# Altium footprint library microdevel_lib.pcblib: 22 footprints (part 2 of 2)
Each footprint in its own frame and in the unit in brackets; x right, y up, seen from the top. Pads: shape width x height; smd on the part's side, far side on the other; paste and mask are expansions set on the pad; w line width, h text height; cw(c..) or ccw(c..) is an arc to the next point about the centre after c.
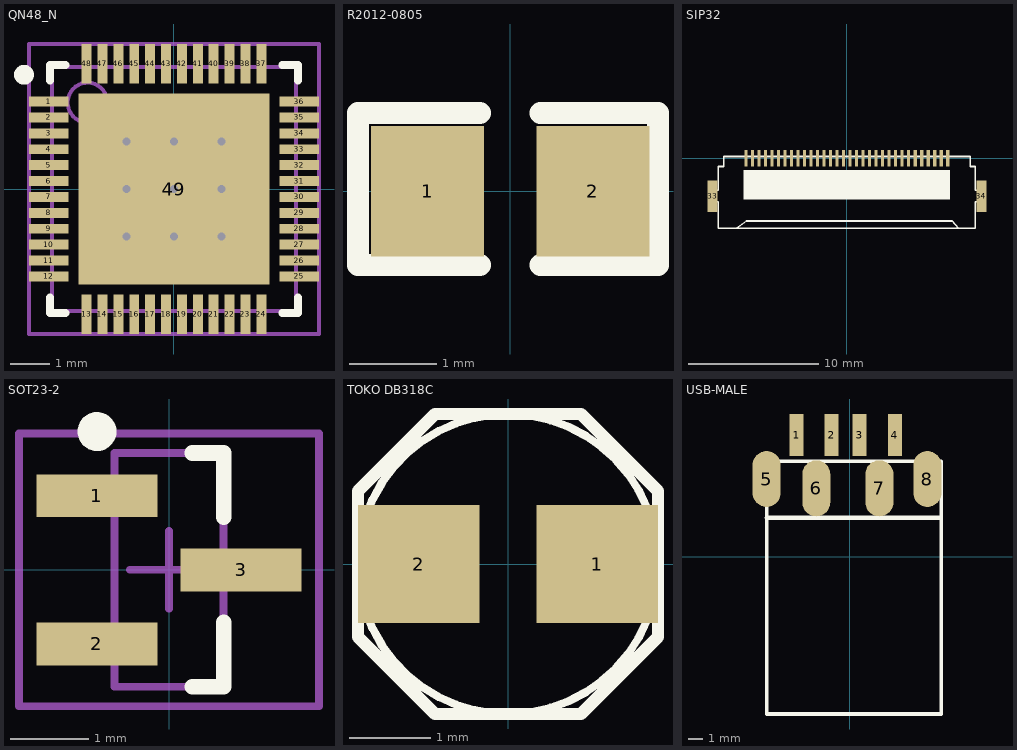
[diagram p1: the footprints below, top view; thin cyan lines are the x and y axes]

## QN48_N [mm] "QFN, 48-Leads, Body 6x6 mm, Pitch 0.4mm, IPC Medium Density"
height 1
pads (49):
  rect 1x0.25 smd: 1(-3.15,2.2) 2(-3.15,1.8) 3(-3.15,1.4) 4(-3.15,1) 5(-3.15,0.6) 6(-3.15,0.2) 7(-3.15,-0.2) 8(-3.15,-0.6) 9(-3.15,-1) 10(-3.15,-1.4) 11(-3.15,-1.8) 12(-3.15,-2.2) 25(3.15,-2.2) 26(3.15,-1.8) 27(3.15,-1.4) 28(3.15,-1) 29(3.15,-0.6) 30(3.15,-0.2) 31(3.15,0.2) 32(3.15,0.6) 33(3.15,1) 34(3.15,1.4) 35(3.15,1.8) 36(3.15,2.2)
  rect 0.25x1 smd: 13(-2.2,-3.15) 14(-1.8,-3.15) 15(-1.4,-3.15) 16(-1,-3.15) 17(-0.6,-3.15) 18(-0.2,-3.15) 19(0.2,-3.15) 20(0.6,-3.15) 21(1,-3.15) 22(1.4,-3.15) 23(1.8,-3.15) 24(2.2,-3.15) 37(2.2,3.15) 38(1.8,3.15) 39(1.4,3.15) 40(1,3.15) 41(0.6,3.15) 42(0.2,3.15) 43(-0.2,3.15) 44(-0.6,3.15) 45(-1,3.15) 46(-1.4,3.15) 47(-1.8,3.15) 48(-2.2,3.15)
  rect 4.8x4.8 smd paste-2.4 mask+0.062: 49(0,0)
via -1.2,-1.2 diameter 0.5 hole 0.2
via 1.2,0 diameter 0.5 hole 0.2
via 0,0 diameter 0.5 hole 0.2
via 1.2,1.2 diameter 0.5 hole 0.2
via 1.2,-1.2 diameter 0.5 hole 0.2
via 0,-1.2 diameter 0.5 hole 0.2
via -1.2,1.2 diameter 0.5 hole 0.2
via 0,1.2 diameter 0.5 hole 0.2
via -1.2,0 diameter 0.5 hole 0.2
TopOverlay:
  circle w0.25: c-3.775,2.875 r0.125
  lines w0.2: -3.125,-2.725 -3.125,-3.125 -2.725,-3.125 ; -3.125,2.725 -3.125,3.125 -2.725,3.125 ; 2.725,-3.125 3.125,-3.125 3.125,-2.725 ; 2.725,3.125 3.125,3.125 3.125,2.725
TopPaste:
  rectangle: 0.1,-1.1 1.1,-0.1
  rectangle: 1.3,-2.3 2.3,-1.3
  rectangle: 1.3,-1.1 2.3,-0.1
  rectangle: 0.1,-2.3 1.1,-1.3
  region: -0.1,-0.1 -1.1,-0.1 -1.1,-1.1 -0.1,-1.1
  region: -1.3,-1.3 -2.3,-1.3 -2.3,-2.3 -1.3,-2.3
  region: -1.3,-0.1 -2.3,-0.1 -2.3,-1.1 -1.3,-1.1
  region: -0.1,-1.3 -1.1,-1.3 -1.1,-2.3 -0.1,-2.3
  region: -0.1,1.1 -1.1,1.1 -1.1,0.1 -0.1,0.1
  region: -1.3,2.3 -2.3,2.3 -2.3,1.3 -1.3,1.3
  region: -1.3,1.1 -2.3,1.1 -2.3,0.1 -1.3,0.1
  region: -0.1,2.3 -1.1,2.3 -1.1,1.3 -0.1,1.3
  rectangle: 0.1,1.3 1.1,2.3
  rectangle: 1.3,0.1 2.3,1.1
  rectangle: 1.3,1.3 2.3,2.3
  rectangle: 0.1,0.1 1.1,1.1
Mechanical13:
  circle w0.1: c-2.175,2.175 r0.5
  lines w0.1: -3.075,-3.075 -3.075,3.075 3.075,3.075 3.075,-3.075 -3.075,-3.075
Mechanical15:
  lines w0.1: -0.5,0 0.5,0 ; 0,-0.5 0,0.5 ; -3.65,-3.65 -3.65,3.65 3.65,3.65 3.65,-3.65 -3.65,-3.65
3D body: height 1, standoff 0, extent -3.074,-3.074 3.074,3.074

## R2012-0805 [mm] "Chip Resistor; Body 2.0 x 1.3 mm (LxW typ)"
height 0.65
pads (2):
  rect 1.3x1.5 smd: 1(-0.95,0) 2(0.95,0)
TopOverlay:
  lines w0.254: -0.35,-0.85 -1.75,-0.85 -1.75,0.9 -0.35,0.9 ; 0.35,-0.85 1.7,-0.85 1.7,0.9 0.35,0.9

## SIP32 [mm]
pads (34):
  rect 0.25x1.3 smd: 1(-7.75,0) 2(-7.25,0) 3(-6.75,0) 4(-6.25,0) 5(-5.75,0) 6(-5.25,0) 7(-4.75,0) 8(-4.25,0) 9(-3.75,0) 12(-2.25,0) 13(-1.75,0) 14(-1.25,0) 15(-0.75,0) 16(-0.25,0) 17(0.25,0) 18(0.75,0) 19(1.25,0) 20(1.75,0) 21(2.25,0) 22(2.75,0) 23(3.25,0) 24(3.75,0) 25(4.25,0) 26(4.75,0) 27(5.25,0) 28(5.75,0) 29(6.25,0) 30(6.75,0) 31(7.25,0) 32(7.75,0)
  rect 0.25x1.27 smd: 10(-3.25,0) 11(-2.75,0)
  rect 0.762x2.413 smd: 33(-10.312,-2.921) 34(10.338,-2.921)
TopOverlay:
  rectangle: -7.95,-3.175 7.925,-0.889
  lines w0.127: -8.484,-5.385 -7.719,-4.826 8.103,-4.826 8.585,-5.385 ; -10.183,-3.353 -10.183,-2.464 -9.878,-2.464 -9.878,-0.635 -9.472,-0.635 -9.472,0.127 9.477,0.127 9.477,-0.635 9.883,-0.635 9.883,-2.464 10.188,-2.464 10.188,-3.353 9.883,-3.353 9.883,-5.385 -9.878,-5.385 -9.878,-3.353 -10.183,-3.353

## SOT23-2 [mm] "SOT23, 3-Leads, Body 3.0x2.6mm (max), Pitch 0.95mm, IPC Medium Density"
height 0.93
pads (3):
  rect 1.55x0.55 smd: 1(-0.925,0.95) 2(-0.925,-0.95) 3(0.925,0)
TopOverlay:
  circle w0.25: c-0.925,1.775 r0.125
  lines w0.2: 0.3,-1.5 0.7,-1.5 0.7,-0.675 ; 0.3,1.5 0.7,1.5 0.7,0.675
Mechanical13:
  lines w0.1: -0.7,-1.5 -0.7,1.5 0.7,1.5 0.7,-1.5 -0.7,-1.5
Mechanical15:
  lines w0.1: -0.5,0 0.5,0 ; 0,-0.5 0,0.5 ; -1.925,-1.75 -1.925,1.75 1.925,1.75 1.925,-1.75 -1.925,-1.75
3D body: height 0.93, standoff 0.05, extent -0.7,-1.5 0.7,1.5

## TOKO DB318C [mm] "FIXED INDUCTOR for surface mounting"
height 2
pads (2):
  rect 1.5x1.45 smd: 1(1.1,0) 2(-1.1,0)
TopOverlay:
  circle w0.1: c0,0 r1.85
  lines w0.15: -1.85,-0.9 -0.9,-1.85 -0.85,-1.85 0.9,-1.85 1.85,-0.9 1.85,-0.85 1.85,0.9 0.9,1.85 -0.9,1.85 -1.85,0.9 -1.85,0.85 -1.85,-0.9
3D body: height 1.8, standoff 0, extent -1.851,-1.851 1.851,1.851

## USB-MALE [mm]
pads (8):
  rect 1x3 smd: 1(-3.8,8.7) 2(-1.3,8.7) 3(0.7,8.7) 4(3.2,8.7)
  oval 2x4 all layers, no hole: 5(-5.94,5.563) 6(-2.4,4.9) 7(2.1,4.9) 8(5.524,5.563)
TopOverlay:
  lines w0.254: -5.94,-11.201 -5.94,6.833 6.506,6.833 6.506,-11.201 -5.94,-11.201
  lines w0.3: -5.94,2.8 6.506,2.8
Mechanical1:
  lines w0.203: -6.492,4.064 -5.338,4.064 -5.338,6.961 -6.492,6.961 -6.492,4.064 ; -2.952,3.401 -2.952,6.298 -1.798,6.298 -1.798,3.401 -2.952,3.401 ; 1.548,3.401 1.548,6.298 2.702,6.298 2.702,3.401 1.548,3.401 ; 4.972,4.064 4.972,6.961 6.126,6.961 6.126,4.064 4.972,4.064